# EAGLE library part CONN:DB15-TYPE2 (library QuantumOptics)
Connector, DB-15, board mount, e.g. Tyco 5747299-7/8
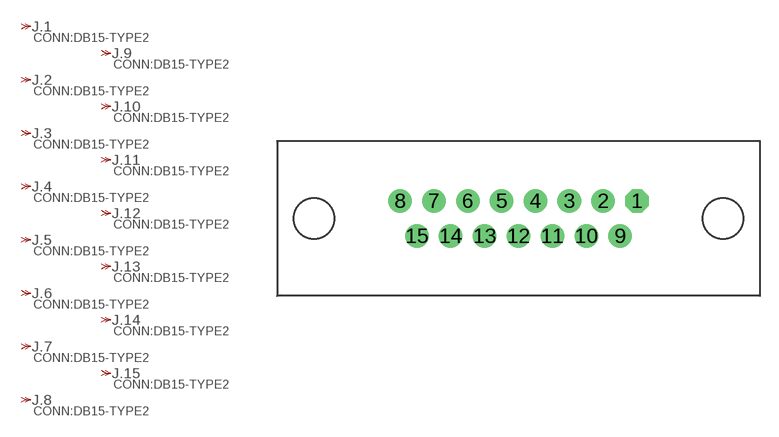
[diagram p128: symbol with the pads of CONN:DB15V; footprint CONN:DB15V]

Designator prefix J; gates .1=CONN:PIN-TYPE2 .2=CONN:PIN-TYPE2 .3=CONN:PIN-TYPE2 .4=CONN:PIN-TYPE2 .5=CONN:PIN-TYPE2 .6=CONN:PIN-TYPE2 .7=CONN:PIN-TYPE2 .8=CONN:PIN-TYPE2 .9=CONN:PIN-TYPE2 .10=CONN:PIN-TYPE2 .11=CONN:PIN-TYPE2 .12=CONN:PIN-TYPE2 .13=CONN:PIN-TYPE2 .14=CONN:PIN-TYPE2 .15=CONN:PIN-TYPE2

## CONN:DB15-TYPE2-AMP_5747299-7/8  [CONN:DB15V]
1  .1:P$1
2  .2:P$1
3  .3:P$1
4  .4:P$1
5  .5:P$1
6  .6:P$1
7  .7:P$1
8  .8:P$1
9  .9:P$1
10  .10:P$1
11  .11:P$1
12  .12:P$1
13  .13:P$1
14  .14:P$1
15  .15:P$1

## Footprint CONN:DB15V (pad centres in mm)
SUB-D15, AKA DB-15, fits AMP 8.08mm mount such as 5747299-8 (steel, vert) http://documents.tycoelectronics.com/commerce/DocumentDelivery/DDEController?Action=srchrtrv&DocNm=5747299&DocType=CD&DocLang=EN
drill 1.067 pad 1.905 octagon: 1 9.6,1.42
drill 1.067 pad 1.905: 2 6.86,1.42; 3 4.11,1.42; 4 1.37,1.42; 5 -1.37,1.42; 6 -4.11,1.42; 7 -6.86,1.42; 8 -9.6,1.42; 9 8.23,-1.42; 10 5.49,-1.42; 11 2.74,-1.42; 12 0,-1.42; 13 -2.74,-1.42; 14 -5.49,-1.42; 15 -8.23,-1.42
hole 3.175 at 16.56,0
hole 3.175 at -16.56,0